# Altium footprint library Proto-Pi.PCBLIB: 27 footprints (part 1 of 2)
Each footprint in its own frame and in the unit in brackets; x right, y up, seen from the top. Pads: shape width x height; smd on the part's side, far side on the other; paste and mask are expansions set on the pad; w line width, h text height; cw(c..) or ccw(c..) is an arc to the next point about the centre after c.
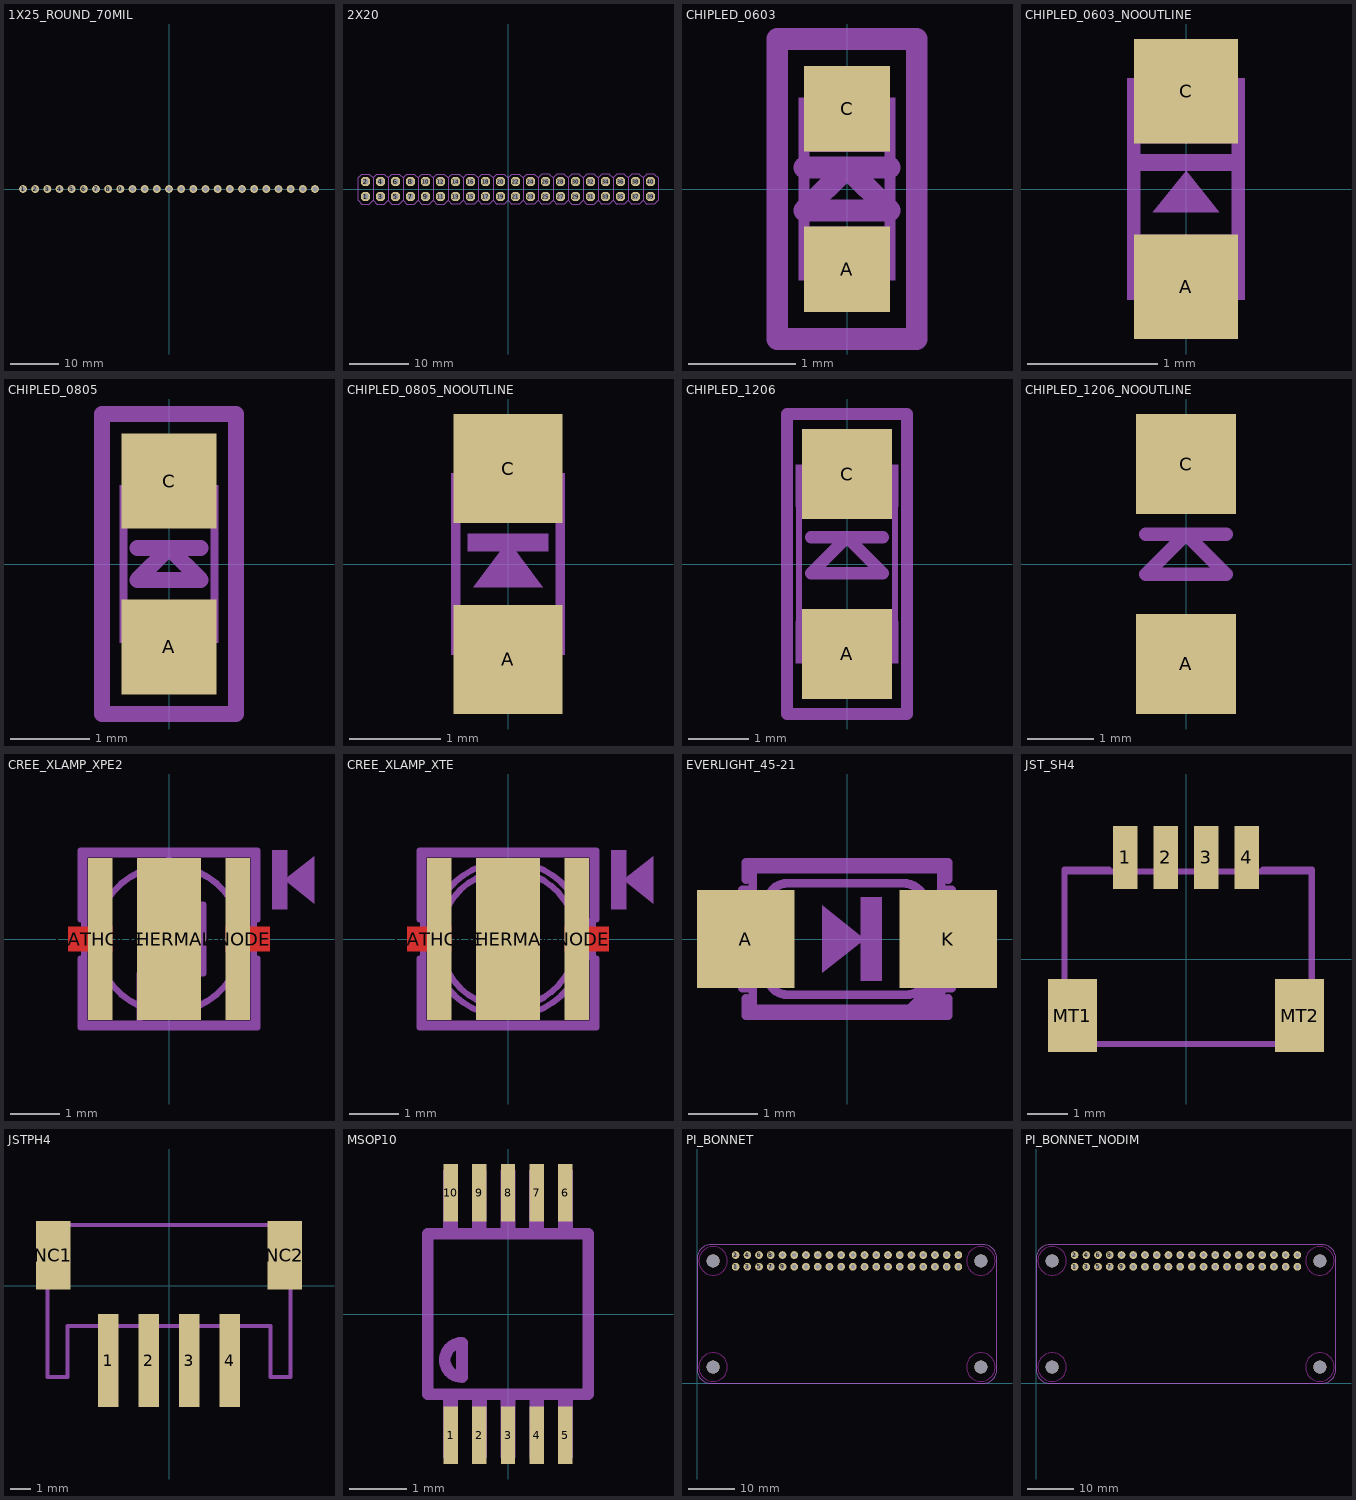
[diagram p0: the footprints below, top view; thin cyan lines are the x and y axes]

## 1X25_ROUND_70MIL [mil]
pads (25):
  round 66 hole 39.37: 1(-1200,0) 2(-1100,0) 3(-1000,0) 4(-900,0) 5(-800,0) 6(-700,0) 7(-600,0) 8(-500,0) 9(-400,0) 10(-300,0) 11(-200,0) 12(-100,0) 13(0,0) 14(100,0) 15(200,0) 16(300,0) 17(400,0) 18(500,0) 19(600,0) 20(700,0) 21(800,0) 22(900,0) 23(1000,0) 24(1100,0) 25(1200,0)

## 2X20 [mil]
pads (40):
  oct 60x60 / inner round 55.43 / far side oct 60x60 hole 40: 1(-950,-50) 2(-950,50) 3(-850,-50) 4(-850,50) 5(-750,-50) 6(-750,50) 7(-650,-50) 8(-650,50) 9(-550,-50) 10(-550,50) 11(-450,-50) 12(-450,50) 13(-350,-50) 14(-350,50) 15(-250,-50) 16(-250,50) 17(-150,-50) 18(-150,50) 19(-50,-50) 20(-50,50) 21(50,-50) 22(50,50) 23(150,-50) 24(150,50) 25(250,-50) 26(250,50) 27(350,-50) 28(350,50) 29(450,-50) 30(450,50) 31(550,-50) 32(550,50) 33(650,-50) 34(650,50) 35(750,-50) 36(750,50) 37(850,-50) 38(850,50) 39(950,-50) 40(950,50)
tDocu:
  drawing of 40 lines, arcs and shapes, not listed
tPlace:
  lines w6: -900,-75 -925,-100 -975,-100 -1000,-75 -1000,75 -975,100 -925,100 -900,75 ; -900,-75 -875,-100 -825,-100 -800,-75 ; -900,-75 -900,75 ; -900,75 -875,100 -825,100 -800,75 ; -800,-75 -775,-100 -725,-100 -700,-75 ; -800,-75 -800,75 ; -800,75 -775,100 -725,100 -700,75 ; -700,-75 -675,-100 -625,-100 -600,-75 ; -700,-75 -700,75 ; -700,75 -675,100 -625,100 -600,75 ; -600,-75 -575,-100 -525,-100 -500,-75 ; -600,-75 -600,75 ; -600,75 -575,100 -525,100 -500,75 ; -500,-75 -475,-100 -425,-100 -400,-75 ; -500,-75 -500,75 ; -500,75 -475,100 -425,100 -400,75 ; -400,-75 -375,-100 -325,-100 -300,-75 ; -400,-75 -400,75 ; -400,75 -375,100 -325,100 -300,75 ; -300,-75 -275,-100 -225,-100 -200,-75 ; -300,-75 -300,75 ; -300,75 -275,100 -225,100 -200,75 ; -200,-75 -175,-100 -125,-100 -100,-75 ; -200,-75 -200,75 ; -200,75 -175,100 -125,100 -100,75 ; -100,-75 -75,-100 -25,-100 0,-75 ; -100,-75 -100,75 ; -100,75 -75,100 -25,100 0,75 ; 0,-75 25,-100 75,-100 100,-75 ; 0,-75 0,75 ; 0,75 25,100 75,100 100,75 ; 100,-75 125,-100 175,-100 200,-75 ; 100,-75 100,75 ; 100,75 125,100 175,100 200,75 ; 200,-75 225,-100 275,-100 300,-75 ; 200,-75 200,75 ; 200,75 225,100 275,100 300,75 ; 300,-75 325,-100 375,-100 400,-75 ; 300,-75 300,75 ; 300,75 325,100 375,100 400,75 ; 400,-75 425,-100 475,-100 500,-75 ; 400,-75 400,75 ; 400,75 425,100 475,100 500,75 ; 500,-75 525,-100 575,-100 600,-75 ; 500,-75 500,75 ; 500,75 525,100 575,100 600,75 ; 600,-75 625,-100 675,-100 700,-75 ; 600,-75 600,75 ; 600,75 625,100 675,100 700,75 ; 700,-75 725,-100 775,-100 800,-75 ; 700,-75 700,75 ; 700,75 725,100 775,100 800,75 ; 800,-75 825,-100 875,-100 900,-75 ; 800,-75 800,75 ; 800,75 825,100 875,100 900,75 ; 900,-75 900,75 ; 900,-75 925,-100 975,-100 1000,-75 1000,75 975,100 925,100 900,75

## CHIPLED_0603 [mil]
pads (2):
  rect 31.5x31.5 smd: A(0,-29.53) C(0,29.53)
tDocu:
  circle w2: c-13.78,24.61 r2.95
  region: -17.72,27.56 -17.72,33.46 -9.84,33.46 -9.84,27.56
  region: -10.83,21.65 -10.83,23.62 -8.86,23.62 -8.86,21.65
  region: -17.72,13.78 -17.72,28.54 -15.75,28.54 -15.75,13.78
  region: 9.84,21.65 9.84,33.46 17.72,33.46 17.72,21.65
  region: -17.72,13.78 -17.72,22.64 17.72,22.64 17.72,13.78
  region: -17.72,-33.46 -17.72,-13.78 -9.84,-13.78 -9.84,-33.46
  region: 9.84,-33.46 9.84,-13.78 17.72,-13.78 17.72,-33.46
  region: -10.83,-22.64 -10.83,-13.78 10.83,-13.78 10.83,-22.64
  region: -10.83,-25.59 -10.83,-21.65 -6.89,-21.65 -6.89,-25.59
  region: 6.89,-25.59 6.89,-21.65 10.83,-21.65 10.83,-25.59
  lines w2: -10.83,-32.48 cw(c0,-32.48) 10.83,-32.48
  lines w4: -15.75,-13.78 -15.75,14.76 ; -11.81,31.5 ccw(c0,32.53) 11.81,31.5 ; 15.75,-13.78 15.75,13.78
tPlace:
  lines w8: -15.75,7.87 0,7.87 ; 15.75,7.87 0,7.87 ; 0,7.87 -15.75,-7.87 15.75,-7.87 0,7.87 ; -25.59,-55.12 -25.59,55.12 25.59,55.12 25.59,-55.12 -25.59,-55.12

## CHIPLED_0603_NOOUTLINE [mil]
pads (2):
  rect 31.5x31.5 smd: A(0,-29.53) C(0,29.53)
tDocu:
  circle w2: c-13.78,24.61 r2.95
  region: -17.72,27.56 -17.72,33.46 -9.84,33.46 -9.84,27.56
  region: -10.83,21.65 -10.83,23.62 -8.86,23.62 -8.86,21.65
  region: -17.72,13.78 -17.72,28.54 -15.75,28.54 -15.75,13.78
  region: 9.84,21.65 9.84,33.46 17.72,33.46 17.72,21.65
  region: -17.72,13.78 -17.72,22.64 17.72,22.64 17.72,13.78
  region: -17.72,-33.46 -17.72,-13.78 -9.84,-13.78 -9.84,-33.46
  region: 9.84,-33.46 9.84,-13.78 17.72,-13.78 17.72,-33.46
  region: -10.83,-22.64 -10.83,-13.78 10.83,-13.78 10.83,-22.64
  region: -10.83,-25.59 -10.83,-21.65 -6.89,-21.65 -6.89,-25.59
  region: 6.89,-25.59 6.89,-21.65 10.83,-21.65 10.83,-25.59
  lines w2: -10.83,-32.48 cw(c0,-32.48) 10.83,-32.48
  lines w4: -15.75,-13.78 -15.75,14.76 ; -11.81,31.5 ccw(c0,32.53) 11.81,31.5 ; 15.75,-13.78 15.75,13.78
tPlace:
  region: -15,5.5 -15,10.5 15,10.5 15,5.5
  region: 0,5.5 -10,-7 10,-7

## CHIPLED_0805 [mil]
pads (2):
  rect 47.24x47.24 smd: A(0,-41.34) C(0,41.34)
tDocu:
  circle w3: c-17.72,33.46 r4.06
  region: 11.81,19.69 11.81,39.37 24.61,39.37 24.61,19.69
  region: -12.8,19.69 -12.8,29.53 -6.89,29.53 -6.89,19.69
  region: 6.89,19.69 6.89,29.53 12.8,29.53 12.8,19.69
  region: -7.87,19.69 -7.87,26.57 7.87,26.57 7.87,19.69
  region: 11.81,-39.37 11.81,-19.69 24.61,-19.69 24.61,-39.37
  region: -24.61,-39.37 -24.61,-19.69 -11.81,-19.69 -11.81,-39.37
  region: 6.89,-29.53 6.89,-19.69 12.8,-19.69 12.8,-29.53
  region: -12.8,-29.53 -12.8,-19.69 -6.89,-19.69 -6.89,-29.53
  region: -7.87,-26.57 -7.87,-19.69 7.87,-19.69 7.87,-26.57
  region: -23.62,19.69 -23.62,30 -11.81,30 -11.81,19.69
  region: -24.61,36.42 -24.61,39.37 -11.81,39.37 -11.81,36.42
  lines w4: -22.64,-19.69 -22.64,36.42 ; -13.78,-36.42 cw(c0,-38.55) 13.78,-36.42 ; -13.78,36.42 ccw(c0,38.55) 13.78,36.42 ; 22.64,-20.67 22.64,20.67
  text "A" at -3.94,-55.12 h15.5
  text "C" at -3.94,47.24 h15.5
tPlace:
  lines w8: -15.75,7.87 0,7.87 ; 15.75,7.87 0,7.87 ; 0,7.87 -15.75,-7.87 15.75,-7.87 0,7.87 ; -33.46,-74.8 33.46,-74.8 33.46,74.8 -33.46,74.8 -33.46,-74.8

## CHIPLED_0805_NOOUTLINE [mil]
pads (2):
  rect 47.24x47.24 smd: A(0,-41.34) C(0,41.34)
tDocu:
  circle w3: c-17.72,33.46 r4.06
  region: 11.81,19.69 11.81,39.37 24.61,39.37 24.61,19.69
  region: -12.8,19.69 -12.8,29.53 -6.89,29.53 -6.89,19.69
  region: 6.89,19.69 6.89,29.53 12.8,29.53 12.8,19.69
  region: -7.87,19.69 -7.87,26.57 7.87,26.57 7.87,19.69
  region: 11.81,-39.37 11.81,-19.69 24.61,-19.69 24.61,-39.37
  region: -24.61,-39.37 -24.61,-19.69 -11.81,-19.69 -11.81,-39.37
  region: 6.89,-29.53 6.89,-19.69 12.8,-19.69 12.8,-29.53
  region: -12.8,-29.53 -12.8,-19.69 -6.89,-19.69 -6.89,-29.53
  region: -7.87,-26.57 -7.87,-19.69 7.87,-19.69 7.87,-26.57
  region: -23.62,19.69 -23.62,30 -11.81,30 -11.81,19.69
  region: -24.61,36.42 -24.61,39.37 -11.81,39.37 -11.81,36.42
  lines w4: -22.64,-19.69 -22.64,36.42 ; -13.78,-36.42 cw(c0,-38.55) 13.78,-36.42 ; -13.78,36.42 ccw(c0,38.55) 13.78,36.42 ; 22.64,-20.67 22.64,20.67
  text "A" at -3.94,-55.12 h15.5
  text "C" at -3.94,47.24 h15.5
tPlace:
  region: -17.5,5.53 -17.5,13.03 17.5,13.03 17.5,5.53
  region: 0,10 -15,-10 15,-10

## CHIPLED_1206 [mil]
pads (2):
  rect 59.06x59.06 smd: A(0,-58.9) C(0,58.9)
tDocu:
  circle w3: c-21.65,56.1 r3.94
  region: -33.46,60.04 -33.46,64.96 -13.78,64.96 -13.78,60.04
  region: -33.46,48.23 -33.46,61.02 -24.61,61.02 -24.61,48.23
  region: -17.72,48.23 -17.72,57.09 -12.8,57.09 -12.8,48.23
  region: -25.59,48.23 -25.59,53.15 -8.86,53.15 -8.86,48.23
  region: 13.78,51.18 13.78,64.96 33.46,64.96 33.46,51.18
  region: 9.84,48.23 9.84,53.15 33.46,53.15 33.46,48.23
  region: -33.46,37.4 -33.46,49.21 33.46,49.21 33.46,37.4
  region: -33.46,-64.96 -33.46,-37.4 33.46,-37.4 33.46,-64.96
  lines w4: -31.5,-37.4 -31.5,37.4 ; -15.75,62.99 ccw(c0,64.01) 15.75,62.99 ; 31.5,-37.4 31.5,37.4
  text "A" at -3.94,-87.8 h24.8
  text "C" at -3.94,73.23 h24.8
tPlace:
  lines w8: -23.62,17.56 0,17.56 ; 23.62,17.56 0,17.56 ; 0,17.56 -23.62,-6.06 23.62,-6.06 0,17.56 ; -39.37,-98.37 -39.37,98.37 39.37,98.37 39.37,-98.37 -39.37,-98.37

## CHIPLED_1206_NOOUTLINE [mil]
pads (2):
  rect 59.06x59.06 smd: A(0,-58.9) C(0,58.9)
tPlace:
  lines w8: -23.62,17.56 0,17.56 ; 23.62,17.56 0,17.56 ; 0,17.56 -23.62,-6.06 23.62,-6.06 0,17.56

## CREE_XLAMP_XPE2 [mil]
pads (3):
  rect 19.69x129.92 smd paste+0: ANODE(55.12,0) CATHODE(-55.12,0)
  rect 51.18x129.92 smd paste+0: THERMAL(0,0)
Top:
  region: -80.71,-9.84 -80.71,9.84 -45.28,9.84 -45.28,-9.84
  region: 80.71,9.84 80.71,-9.84 45.28,-9.84 45.28,9.84
Top Paste:
  region: -23.62,-62.99 -23.62,62.99 23.62,62.99 23.62,-62.99
  region: -78.74,-7.87 -78.74,7.87 -47.24,7.87 -47.24,-7.87
  region: -62.99,7.87 -62.99,62.99 -47.24,62.99 -47.24,7.87
  region: -62.99,-62.99 -62.99,-7.87 -47.24,-7.87 -47.24,-62.99
  region: 47.24,-7.87 47.24,7.87 78.74,7.87 78.74,-7.87
  region: 47.24,7.87 47.24,62.99 62.99,62.99 62.99,7.87
  region: 47.24,-62.99 47.24,-7.87 62.99,-7.87 62.99,-62.99
Top Solder:
  region: -82.68,-11.81 -82.68,11.81 -45.28,11.81 -45.28,-11.81
  region: 82.68,11.81 82.68,-11.81 45.28,-11.81 45.28,11.81
tDocu:
  circle w5: c0,0 r58.53
  region: -59.06,-59.06 -59.06,-51.18 -51.18,-51.18 -51.18,-59.06
  region: -19.69,-19.69 -19.69,19.69 19.69,19.69 19.69,-19.69
  lines w5: -23.62,-66.93 -23.62,-27.56 27.56,-27.56 27.56,27.56 0,27.56 0,66.93 ; -67.91,-67.91 67.91,-67.91 67.91,67.91 -67.91,67.91 -67.91,-67.91
tPlace:
  region: 82.68,23.62 82.68,70.87 94.49,70.87 94.49,23.62
  region: 92.36,47.24 116.3,28.31 116.3,66.18
  lines w5: -70.87,-15.75 -70.87,-70.87 70.87,-70.87 70.87,-15.75 ; -70.87,15.75 -70.87,70.87 70.87,70.87 70.87,15.75

## CREE_XLAMP_XTE [mil]
pads (3):
  rect 19.69x129.92 smd paste+0: ANODE(55.12,0) CATHODE(-55.12,0)
  rect 51.18x129.92 smd paste+0: THERMAL(0,0)
Top:
  region: -80.71,-9.84 -80.71,9.84 -45.28,9.84 -45.28,-9.84
  region: 80.71,9.84 80.71,-9.84 45.28,-9.84 45.28,9.84
Top Paste:
  region: -23.62,-62.99 -23.62,62.99 23.62,62.99 23.62,-62.99
  region: -78.74,-7.87 -78.74,7.87 -47.24,7.87 -47.24,-7.87
  region: -62.99,7.87 -62.99,62.99 -47.24,62.99 -47.24,7.87
  region: -62.99,-62.99 -62.99,-7.87 -47.24,-7.87 -47.24,-62.99
  region: 47.24,-7.87 47.24,7.87 78.74,7.87 78.74,-7.87
  region: 47.24,7.87 47.24,62.99 62.99,62.99 62.99,7.87
  region: 47.24,-62.99 47.24,-7.87 62.99,-7.87 62.99,-62.99
Top Solder:
  region: -82.68,-11.81 -82.68,11.81 -45.28,11.81 -45.28,-11.81
  region: 82.68,11.81 82.68,-11.81 45.28,-11.81 45.28,11.81
tDocu:
  circle w5: c0,0 r62.25
  circle w5: c0,0 r54.84
  region: -59.06,-59.06 -59.06,-51.18 -51.18,-51.18 -51.18,-59.06
  region: -19.69,-19.69 -19.69,19.69 19.69,19.69 19.69,-19.69
  lines w3.94: 47.24,-4.92 57.09,-4.92 57.09,-14.76 66.93,-14.76 66.93,-4.92 76.77,-4.92 76.77,4.92 66.93,4.92 66.93,14.76 57.09,14.76 57.09,4.92 47.24,4.92 47.24,-4.92
  lines w5: -67.91,-67.91 67.91,-67.91 67.91,67.91 -67.91,67.91 -67.91,-67.91
tPlace:
  region: 82.68,23.62 82.68,70.87 94.49,70.87 94.49,23.62
  region: 92.36,47.24 116.3,28.31 116.3,66.18
  lines w5: -70.87,-15.75 -70.87,-70.87 70.87,-70.87 70.87,-15.75 ; -70.87,15.75 -70.87,70.87 70.87,70.87 70.87,15.75

## EVERLIGHT_45-21 [mil]
pads (2):
  rect 55.12x55.12 smd: A(-57.09,0) K(57.09,0)
tDocu:
  lines w5: 51.18,-33.46 47.24,-37.4 43.31,-37.4 53.15,-27.56 ; -53.15,-27.56 -53.15,-39.37 35.43,-39.37 ; -53.15,-27.56 -53.15,27.56 ; -53.15,-27.56 -59.06,-27.56 -59.06,27.56 -53.15,27.56 ; -53.15,27.56 -53.15,39.37 53.15,39.37 53.15,27.56 ; 35.43,-39.37 53.15,-39.37 53.15,-27.56 ; 35.43,-39.37 53.15,-21.65 ; 53.15,-27.56 59.06,-27.56 59.06,27.56 53.15,27.56 ; 53.15,-27.56 53.15,-21.65 ; 53.15,-21.65 53.15,27.56 ; -45.28,-19.69 ccw(c-33.47,-19.68) -33.46,-31.5 33.46,-31.5 ccw(c33.47,-19.68) 45.28,-19.69 45.28,17.72 ccw(c31.5,17.72) 31.5,31.5 -33.46,31.5 ccw(c-33.47,19.68) -45.28,19.69 -45.28,-19.69
tPlace:
  region: 19.69,23.62 19.69,-23.62 7.87,-23.62 7.87,23.62
  region: 10,0 -13.94,18.94 -13.94,-18.94
  lines w5: -57.09,-33.46 -57.09,-43.31 57.09,-43.31 57.09,-33.46 ; -57.09,33.46 -57.09,43.31 57.09,43.31 57.09,33.46

## JST_SH4 [mil]
pads (6):
  rect 23.62x61.02 smd: 1(-59.06,98.98) 2(-19.69,98.98) 3(19.69,98.98) 4(59.06,98.98)
  rect 47.24x70.87 smd: MT1(-110.24,-54.57) MT2(110.24,-54.57)
tDocu:
  lines w6: -118.11,-82.13 -118.11,85.2 122.05,85.2 122.05,-82.13 -118.11,-82.13
tValues:
  text "JST SH 4" at -131.1,-157.72 h62
tPlace:
  lines w6: -118.11,-15.2 -118.11,87.17 -74.8,87.17 ; -82.68,-82.13 82.68,-82.13 ; 74.8,87.17 122.05,87.17 122.05,-15.2

## JSTPH4 [mm]
pads (6):
  rect 1x4.6 smd: 1(-3,-3.7) 2(-1,-3.7) 3(1,-3.7) 4(3,-3.7)
  rect 1.7x3.4 smd: NC1(-5.7,1.5) NC2(5.7,1.5)
tDocu:
  lines w0.203: -6,-4.5 -6,3 6,3 6,-4.5 5,-4.5 5,-2 -5,-2 -5,-4.5 -6,-4.5
tPlace:
  lines w0.203: -6,-0.5 -6,-4.5 -5,-4.5 -5,-2 -3.75,-2 ; -4.5,3 4.5,3 ; 3.75,-2 5,-2 5,-4.5 6,-4.5 6,-0.5

## MSOP10 [mm]
pads (10):
  rect 0.25x1 smd: 1(-1,-2.113) 2(-0.5,-2.113) 3(0,-2.113) 4(0.5,-2.113) 5(1,-2.113) 6(1,2.113) 7(0.5,2.113) 8(0,2.113) 9(-0.5,2.113) 10(-1,2.113)
tDocu:
  region: -1.124,-2.5 -1.124,-1.5 -0.875,-1.5 -0.875,-2.5
  region: -0.624,-2.5 -0.624,-1.5 -0.374,-1.5 -0.374,-2.5
  region: -0.124,-2.5 -0.124,-1.5 0.125,-1.5 0.125,-2.5
  region: 0.376,-2.5 0.376,-1.5 0.626,-1.5 0.626,-2.5
  region: 0.876,-2.5 0.876,-1.5 1.126,-1.5 1.126,-2.5
  region: 1.124,2.5 1.124,1.5 0.875,1.5 0.875,2.5
  region: 0.624,2.5 0.624,1.5 0.374,1.5 0.374,2.5
  region: 0.124,2.5 0.124,1.5 -0.125,1.5 -0.125,2.5
  region: -0.376,2.5 -0.376,1.5 -0.626,1.5 -0.626,2.5
  region: -0.876,2.5 -0.876,1.5 -1.126,1.5 -1.126,2.5
tPlace:
  lines w0.203: -1.4,-1.4 1.4,-1.4 1.4,1.4 -1.4,1.4 -1.4,-1.4 ; -0.8,-1.1 cw(c-0.8,-0.8) -0.8,-0.5 -0.8,-1.1

## PI_BONNET [mil]
pads (44):
  round 66 hole 35.43: 1(329.53,993.31) 2(329.53,1093.31) 3(429.53,993.31) 4(429.53,1093.31) 5(529.53,993.31) 6(529.53,1093.31) 7(629.53,993.31) 8(629.53,1093.31) 9(729.53,993.31) 10(729.53,1093.31) 11(829.53,993.31) 12(829.53,1093.31) 13(929.53,993.31) 14(929.53,1093.31) 15(1029.53,993.31) 16(1029.53,1093.31) 17(1129.53,993.31) 18(1129.53,1093.31) 19(1229.53,993.31) 20(1229.53,1093.31) 21(1329.53,993.31) 22(1329.53,1093.31) 23(1429.53,993.31) 24(1429.53,1093.31) 25(1529.53,993.31) 26(1529.53,1093.31) 27(1629.53,993.31) 28(1629.53,1093.31) 29(1729.53,993.31) 30(1729.53,1093.31) 31(1829.53,993.31) 32(1829.53,1093.31) 33(1929.53,993.31) 34(1929.53,1093.31) 35(2029.53,993.31) 36(2029.53,1093.31) 37(2129.53,993.31) 38(2129.53,1093.31) 39(2229.53,993.31) 40(2229.53,1093.31)
  round 110.24 hole 110.24 unplated: MH1(137.8,137.8) MH2(137.8,1043.31) MH3(2421.26,1043.31) MH4(2421.26,137.8)
Top keep-out:
  circle w0: c137.8,137.8 r122.05
  circle w0: c2421.26,137.8 r122.05
  circle w0: c137.8,1043.31 r122.05
  circle w0: c2421.26,1043.31 r122.05
Dimension:
  lines w0: 0,118.11 0,1062.99 cw(c118.11,1062.99) 118.11,1181.1 2440.94,1181.1 cw(c2440.95,1062.98) 2559.06,1062.99 2559.06,118.11 cw(c2440.95,118.11) 2440.94,0 118.11,0 cw(c118.11,118.11) 0,118.11

## PI_BONNET_NODIM [mil]
pads (44):
  round 66 hole 35.43: 1(329.53,993.31) 2(329.53,1093.31) 3(429.53,993.31) 4(429.53,1093.31) 5(529.53,993.31) 6(529.53,1093.31) 7(629.53,993.31) 8(629.53,1093.31) 9(729.53,993.31) 10(729.53,1093.31) 11(829.53,993.31) 12(829.53,1093.31) 13(929.53,993.31) 14(929.53,1093.31) 15(1029.53,993.31) 16(1029.53,1093.31) 17(1129.53,993.31) 18(1129.53,1093.31) 19(1229.53,993.31) 20(1229.53,1093.31) 21(1329.53,993.31) 22(1329.53,1093.31) 23(1429.53,993.31) 24(1429.53,1093.31) 25(1529.53,993.31) 26(1529.53,1093.31) 27(1629.53,993.31) 28(1629.53,1093.31) 29(1729.53,993.31) 30(1729.53,1093.31) 31(1829.53,993.31) 32(1829.53,1093.31) 33(1929.53,993.31) 34(1929.53,1093.31) 35(2029.53,993.31) 36(2029.53,1093.31) 37(2129.53,993.31) 38(2129.53,1093.31) 39(2229.53,993.31) 40(2229.53,1093.31)
  round 110.24 hole 110.24 unplated: MH1(137.8,137.8) MH2(137.8,1043.31) MH3(2421.26,1043.31) MH4(2421.26,137.8)
Top keep-out:
  circle w0: c137.8,137.8 r122.05
  circle w0: c2421.26,137.8 r122.05
  circle w0: c137.8,1043.31 r122.05
  circle w0: c2421.26,1043.31 r122.05
tPlace:
  lines w0: 0,118.11 0,1062.99 cw(c118.11,1062.99) 118.11,1181.1 2440.94,1181.1 cw(c2440.95,1062.98) 2559.06,1062.99 2559.06,118.11 cw(c2440.95,118.11) 2440.94,0 118.11,0 cw(c118.11,118.11) 0,118.11